# Altium schematic symbol library TI_TLC591x.SchLib: 1 symbol
Pins are listed as number, name and electrical type; pins without a type are passive.

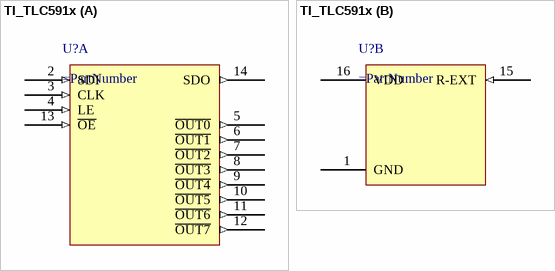
[diagram p0: symbol TI_TLC591x]

## TI_TLC591x
designator U?
part A pins: 2 SDI (in), 3 CLK (in), 4 LE (in), 5 ~{OUT0} (out), 6 ~{OUT1} (out), 7 ~{OUT2} (out), 8 ~{OUT3} (out), 9 ~{OUT4} (out), 10 ~{OUT5} (out), 11 ~{OUT6} (out), 12 ~{OUT7} (out), 13 ~{OE} (in), 14 SDO (out)
part B pins: 1 GND, 15 R-EXT (in), 16 VDD